# EAGLE library part SPI_ISOLATOR_V4 (library tera-boards)
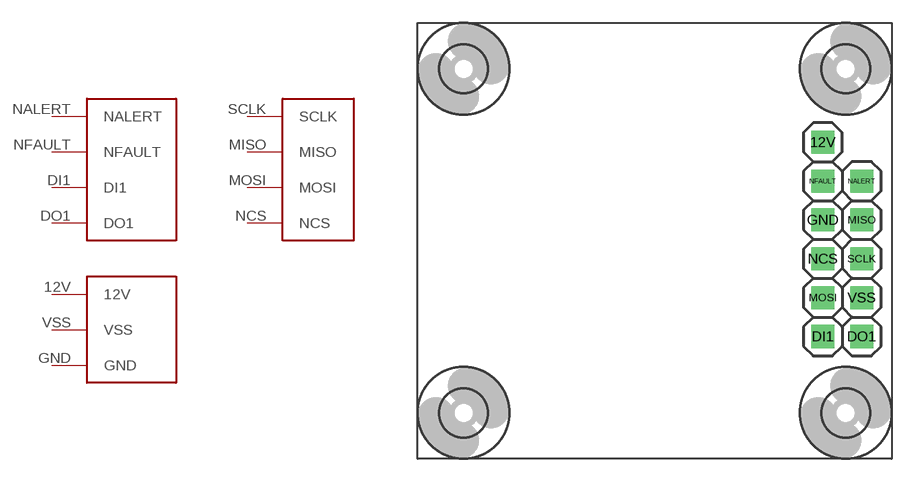
[diagram p7: symbol with the pads of SPI_ISOLATOR_V4; footprint SPI_ISOLATOR_V4]

Designator prefix -; gates G$1=SPI_ISOLATOR_V4_DIGITAL G$2=SPI_ISOLATOR_V4_SPI G$3=SPI_ISOLATOR_V4_VSS

## SPI_ISOLATOR_V4  [SPI_ISOLATOR_V4]
12V  G$3:12V
DI1  G$1:DI1
DO1  G$1:DO1
GND  G$3:GND
MISO  G$2:MISO
MOSI  G$2:MOSI
NALERT  G$1:NALERT
NCS  G$2:NCS
NFAULT  G$1:NFAULT
SCLK  G$2:SCLK
VSS  G$3:VSS

## Footprint SPI_ISOLATOR_V4 (pad centres in mm)
drill 1 square: 12V -1.5,17.7; DI1 -1.5,5; DO1 1.04,5; GND -1.5,12.62; MISO 1.04,12.62; MOSI -1.5,7.54; NALERT 1.04,15.16; NCS -1.5,10.08; NFAULT -1.5,15.16; SCLK 1.04,10.08; VSS 1.04,7.54
hole 3.2 at 0,0
hole 3.2 at 0,22.5
hole 3.2 at -25,0
hole 3.2 at -25,22.5